# Altium schematic symbol library STM32F373BluePill.SchLib: 26 symbols (part 3 of 3)
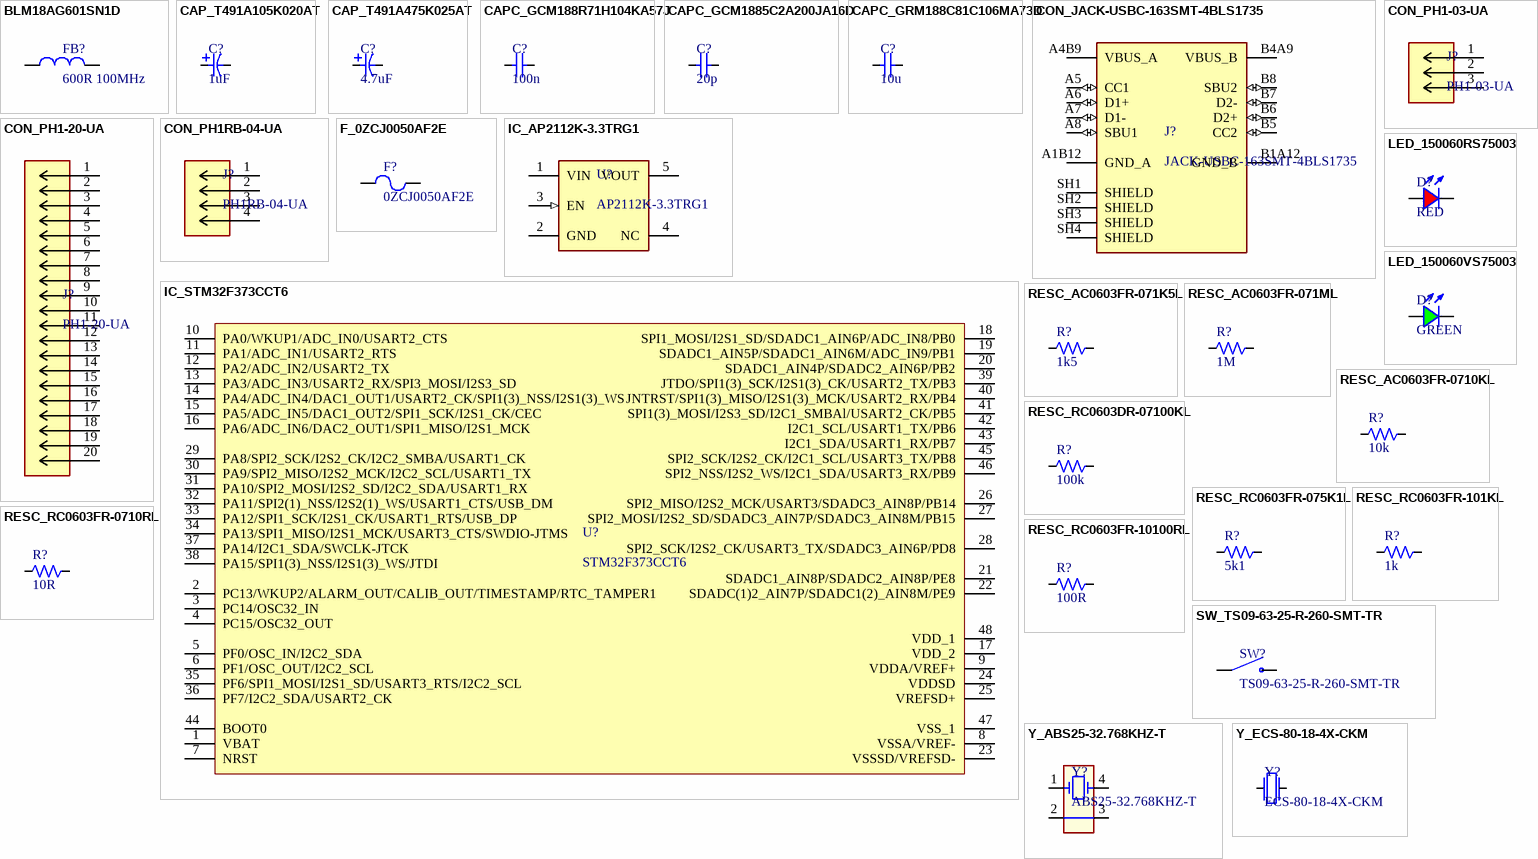
[diagram p2: symbols BLM18AG601SN1D to Y_ECS-80-18-4X-CKM]

## SW_TS09-63-25-R-260-SMT-TR
designator SW?, comment TS09-63-25-R-260-SMT-TR
Switch Tactile OFF (ON) SPST Rectangular Button Gull Wing 0.05A 12VDC 40000Cycles 2.6N SMD T/R; Manufacturer 1: Same Sky; Contact Resistance: 100mΩ; Dielectric Material: Liquid Crystal Polymer; Electrical Life: 40kcycles; Max Current Rating: 50mA; Max Voltage Rating (DC): 12V; Number of Positions: 1; Operating Force: 3.3N; Supplier 1: DigiKey; Manufacturer Part Number 1: TS09-63-25-R-260-SMT-TR; Stock 1: 2655; Pricing 1: 1=0.26, 10=0.226, 25=0.2112, 100=0.1895, 250=0.17568, 500=0.1658, 1000=0.1565 (USD); RoHS: Compliant; Color: Black, Red; Contact Material: Stainless Steel; Contact Plating: Silver; Export Control Classification Number (ECCN) Code: EAR99; Height: 1.8mm; Housing Material: Stainless Steel; Harmonized Tariff Schedule (HTS) Code: 8536.50.90.40; Insulation Resistance: 100MΩ; Introduction Date: 2024-11-07; Length: 6.1mm; Lifecycle Status: Production; Max Operating Temperature: 80°C; Min Operating Temperature: -30°C; Schedule B: 8536509065, 8536509065|8536509065|8536509065|8536509065|8536509065; Terminal Material: Brass; Throw Configuration: SPST; ComponentLink1URL: https://datasheet.octopart.com:443/TS09-63-25-R-260-SMT-TR-Same-Sky-datasheet-188843485.pdf?src-supplier=Same+Sky; ComponentLink1Description: https://datasheet.octopart.com:443/TS09-63-25-R-260-SMT-TR-Same-Sky-datasheet-188843485.pdf?src-supplier=Same+Sky; ComponentLink2URL: https://datasheet.octopart.com:443/TS09-63-25-R-260-SMT-TR-Same-Sky-datasheet-181920478.pdf?src-supplier=Same+Sky; ComponentLink2Description: https://datasheet.octopart.com:443/TS09-63-25-R-260-SMT-TR-Same-Sky-datasheet-181920478.pdf?src-supplier=Same+Sky; ComponentLink3URL: https://datasheet.octopart.com:443/TS09-63-25-R-260-SMT-TR-Same-Sky-datasheet-181920477.pdf?src-supplier=Same+Sky; ComponentLink3Description: https://datasheet.octopart.com:443/TS09-63-25-R-260-SMT-TR-Same-Sky-datasheet-181920477.pdf?src-supplier=Same+Sky; ComponentLink4URL: https://datasheet.octopart.com:443/TS09-63-25-R-260-SMT-TR-CUI-Devices-datasheet-175929131.pdf?src-supplier=Same+Sky; ComponentLink4Description: https://datasheet.octopart.com:443/TS09-63-25-R-260-SMT-TR-CUI-Devices-datasheet-175929131.pdf?src-supplier=Same+Sky; ComponentLink5URL: https://datasheet.octopart.com:443/TS09-63-25-R-260-SMT-TR-CUI-Devices-datasheet-158292269.pdf?src-supplier=Same+Sky; ComponentLink5Description: https://datasheet.octopart.com:443/TS09-63-25-R-260-SMT-TR-CUI-Devices-datasheet-158292269.pdf?src-supplier=Same+Sky; ComponentLink6URL: https://datasheet.octopart.com:443/TS09-63-25-R-260-SMT-TR-Same-Sky-datasheet-182881598.pdf?src-supplier=Electro+Sonic; ComponentLink6Description: https://datasheet.octopart.com:443/TS09-63-25-R-260-SMT-TR-Same-Sky-datasheet-182881598.pdf?src-supplier=Electro+Sonic; ComponentLink7URL: https://datasheet.octopart.com:443/TS09-63-25-R-260-SMT-TR-Same-Sky-datasheet-192884245.pdf?src-supplier=Farnell; ComponentLink7Description: https://datasheet.octopart.com:443/TS09-63-25-R-260-SMT-TR-Same-Sky-datasheet-192884245.pdf?src-supplier=Farnell; ComponentLink8URL: https://datasheet.octopart.com:443/TS09-63-25-R-260-SMT-TR-Same-Sky-datasheet-189105770.pdf?src-supplier=Master+Electronics; ComponentLink8Description: https://datasheet.octopart.com:443/TS09-63-25-R-260-SMT-TR-Same-Sky-datasheet-189105770.pdf?src-supplier=Master+Electronics; ComponentLink9URL: https://datasheet.octopart.com:443/TS09-63-25-R-260-SMT-TR-Same-Sky-datasheet-188930964.pdf?src-supplier=TME; ComponentLink9Description: https://datasheet.octopart.com:443/TS09-63-25-R-260-SMT-TR-Same-Sky-datasheet-188930964.pdf?src-supplier=TME; ComponentLink10URL: https://datasheet.octopart.com:443/TS09-63-25-R-260-SMT-TR-Same-Sky-datasheet-182050347.pdf?src-supplier=Future+Electronics; ComponentLink10Description: https://datasheet.octopart.com:443/TS09-63-25-R-260-SMT-TR-Same-Sky-datasheet-182050347.pdf?src-supplier=Future+Electronics; ComponentLink11URL: https://datasheet.octopart.com:443/TS09-63-25-R-260-SMT-TR-CUI-Devices-datasheet-179174346.pdf?src-supplier=Future+Electronics; ComponentLink11Description: https://datasheet.octopart.com:443/TS09-63-25-R-260-SMT-TR-CUI-Devices-datasheet-179174346.pdf?src-supplier=Future+Electronics; ComponentLink12URL: https://octopart.com:443/opatz8j6/c1?t=l5HlbAYCEQtF25ga8BP1gKdVmFC0QXFg10N-UqLcPEsKPWDSl4EieRPazQX1yw6b8O0XBlOCPwYRqM5QaactZwIDU8WDkrRHG3ALGquE8uURb9MJYj78InS78poluGHgaRJ6n1OuQuRgI3MH-qrDfFyez_fn7CRERxFORHNdKzTscx6YKaYx_RQSk_FV-_-LYVHzXEW8jfvtQZiY_Hf5lHgr3f3R8ssyKS9ab5UTeMAGmgVQvSGwnksim3FNXZXzl4A8l0AZEtRBwAgeRsI4I_QGMR1fI4MZmrQOhs7DigFNOXTzGq62qLa5zFbmCWSM0NT6wukQghT5URyGtJ59RmfDIq-vHVG0xFcwWCSYKzkPvFc-stx5Bfw&src-supplier=Compliance+Statements; ComponentLink12Description: https://octopart.com:443/opatz8j6/c1?t=l5HlbAYCEQtF25ga8BP1gKdVmFC0QXFg10N-UqLcPEsKPWDSl4EieRPazQX1yw6b8O0XBlOCPwYRqM5QaactZwIDU8WDkrRHG3ALGquE8uURb9MJYj78InS78poluGHgaRJ6n1OuQuRgI3MH-qrDfFyez_fn7CRERxFORHNdKzTscx6YKaYx_RQSk_FV-_-LYVHzXEW8jfvtQZiY_Hf5lHgr3f3R8ssyKS9ab5UTeMAGmgVQvSGwnksim3FNXZXzl4A8l0AZEtRBwAgeRsI4I_QGMR1fI4MZmrQOhs7DigFNOXTzGq62qLa5zFbmCWSM0NT6wukQghT5URyGtJ59RmfDIq-vHVG0xFcwWCSYKzkPvFc-stx5Bfw&src-supplier=Compliance+Statements; ComponentLink13URL: https://octopart.com:443/opatz8j6/c1?t=rnD4_cmvS0GvDkqEorAB0IvbTgunqYbFLvamlY5cC4WEmfAPsr-QNWzO_xtTcKtm-lvE8u6czRapqP8DvjaIpdzzgp7uGIJ-gJR9jPOz5U__OLSgYBAufGrJOvvjiVL20dlblNKD3BhQKY7Tacy-yaJgHXVccNkT7rOFzpIgKRqDyKEa2XXX206_6EtCsGcOW8v-ZrqSTPeLchu8Gi_oYKcbSywdws4DUthJGy8EV6pP5uGz9FA7L8jqPC6xCKMkIXlRFL4QD48j0J2jaWhrSlp5t4NIBeWh_XCtfam1rTv_vABtRQw2KWcl4GAajSUDiZMMIaW5kxzNEJAGXwejHH2rFvm5b8RK4A&src-supplier=Compliance+Statements; ComponentLink13Description: https://octopart.com:443/opatz8j6/c1?t=rnD4_cmvS0GvDkqEorAB0IvbTgunqYbFLvamlY5cC4WEmfAPsr-QNWzO_xtTcKtm-lvE8u6czRapqP8DvjaIpdzzgp7uGIJ-gJR9jPOz5U__OLSgYBAufGrJOvvjiVL20dlblNKD3BhQKY7Tacy-yaJgHXVccNkT7rOFzpIgKRqDyKEa2XXX206_6EtCsGcOW8v-ZrqSTPeLchu8Gi_oYKcbSywdws4DUthJGy8EV6pP5uGz9FA7L8jqPC6xCKMkIXlRFL4QD48j0J2jaWhrSlp5t4NIBeWh_XCtfam1rTv_vABtRQw2KWcl4GAajSUDiZMMIaW5kxzNEJAGXwejHH2rFvm5b8RK4A&src-supplier=Compliance+Statements; ComponentLink14URL: https://octopart.com:443/opatz8j6/c1?t=TI3mAHACpiCnRnVMXlWibSSZcbOEv1YzKZpOOd5d5zT4foCausP-AZNSr4D2W9wfJ_Vrh0_6kA448uPqHWYwX6LX_CWy0A0SO7Z05sF4OJA-fYsowgEvcH9E5UN-IB9qFZs3pj4UYLBCf79WijIzH1rdkw6OQv2g2oxaRK5uH7szxb3M-sSColjFJ5C6mmYlMDcqalGgkhrzFizAZvO01TtHDS8OZ9zi0WWfmjmN2-FhhCgbsMV7ZpOHWn4rafiEAygastn4JSSQw1s3wFoOKclMXLLFjCEDiSE0cOD76gKihggacBabcjWAJq9czjMLzF3U6KMdpYsn4LCFu_oQiW4rGw_o2RZjKSZrId0Nva6DVG-Bwg&src-supplier=Compliance+Statements; ComponentLink14Description: https://octopart.com:443/opatz8j6/c1?t=TI3mAHACpiCnRnVMXlWibSSZcbOEv1YzKZpOOd5d5zT4foCausP-AZNSr4D2W9wfJ_Vrh0_6kA448uPqHWYwX6LX_CWy0A0SO7Z05sF4OJA-fYsowgEvcH9E5UN-IB9qFZs3pj4UYLBCf79WijIzH1rdkw6OQv2g2oxaRK5uH7szxb3M-sSColjFJ5C6mmYlMDcqalGgkhrzFizAZvO01TtHDS8OZ9zi0WWfmjmN2-FhhCgbsMV7ZpOHWn4rafiEAygastn4JSSQw1s3wFoOKclMXLLFjCEDiSE0cOD76gKihggacBabcjWAJq9czjMLzF3U6KMdpYsn4LCFu_oQiW4rGw_o2RZjKSZrId0Nva6DVG-Bwg&src-supplier=Compliance+Statements; ComponentLink15URL: https://octopart.com:443/opatz8j6/c1?t=IBSzpZWkPKjoTxxsJHTHnLtZn-II44SZNwWU04FP6zjz3lxTCp1ixRG5BRyiD4nrT2U-U3GIHQ_eylyZWzqZQ3mC09DGK1Ff192yrmZ3BF8_k7yMxhJSezNDqSmtkR_toNPc6AiJZRvmax3emfVKYJoxO6NgxYK_ZtdrlOKX7ZdeDnPqL3eKqWG7OJdK8EtDv9_Am6WyAxiwOcci6Zp5QUxMbDC0pkHvnduhhqKdmCi4TP-MTG7eYW_MB0E4Os32YstEV2qk9BYq6dEO-MOry_RpVpNbPJcy9T7j8QSAJQD5qYRDzhJIpQG2Pk6U9hMOcU_qOBPjBkplPFEdTu8jRif0VYbMJWwWYKgVWIkXrjdK_O6E9gO8mpY&src-supplier=Compliance+Statements; ComponentLink15Description: https://octopart.com:443/opatz8j6/c1?t=IBSzpZWkPKjoTxxsJHTHnLtZn-II44SZNwWU04FP6zjz3lxTCp1ixRG5BRyiD4nrT2U-U3GIHQ_eylyZWzqZQ3mC09DGK1Ff192yrmZ3BF8_k7yMxhJSezNDqSmtkR_toNPc6AiJZRvmax3emfVKYJoxO6NgxYK_ZtdrlOKX7ZdeDnPqL3eKqWG7OJdK8EtDv9_Am6WyAxiwOcci6Zp5QUxMbDC0pkHvnduhhqKdmCi4TP-MTG7eYW_MB0E4Os32YstEV2qk9BYq6dEO-MOry_RpVpNbPJcy9T7j8QSAJQD5qYRDzhJIpQG2Pk6U9hMOcU_qOBPjBkplPFEdTu8jRif0VYbMJWwWYKgVWIkXrjdK_O6E9gO8mpY&src-supplier=Compliance+Statements; ComponentLink16URL: https://octopart.com:443/opatz8j6/c1?t=l533QolsdIF2NmxdgUpZdTG5LLY13_PFf5K5Q9rRz-bxmuWr6CaTVWFwix7oSYXEhYZ8HR0mejQkym4s3uB1uxKtOpFiPI18lsZaHyGRU6GjKl9SFsaU8BJ9V0YU2hAQaYVcmae5RRK05WYVdsDe17jV6JgcV75tYLCJqAtRxzJzNMrADyZU6Y5sC5E_PSj3oR64XZrAbn4jakqeEPyOGV1C17YvXZM4TdaFevu1BpatZJ7Rrd1fFVqoi_QDMqsmRjdUdK4Cj0-XzcDCWPHKyxXp-eKjH1HCadDpZQAg_RtB_K83KES51I0mAmAhd5fDKePdbdHCJ42cxZYZGPMPR1DELS0ZmSICUw&src-supplier=Compliance+Statements; ComponentLink16Description: https://octopart.com:443/opatz8j6/c1?t=l533QolsdIF2NmxdgUpZdTG5LLY13_PFf5K5Q9rRz-bxmuWr6CaTVWFwix7oSYXEhYZ8HR0mejQkym4s3uB1uxKtOpFiPI18lsZaHyGRU6GjKl9SFsaU8BJ9V0YU2hAQaYVcmae5RRK05WYVdsDe17jV6JgcV75tYLCJqAtRxzJzNMrADyZU6Y5sC5E_PSj3oR64XZrAbn4jakqeEPyOGV1C17YvXZM4TdaFevu1BpatZJ7Rrd1fFVqoi_QDMqsmRjdUdK4Cj0-XzcDCWPHKyxXp-eKjH1HCadDpZQAg_RtB_K83KES51I0mAmAhd5fDKePdbdHCJ42cxZYZGPMPR1DELS0ZmSICUw&src-supplier=Compliance+Statements; ComponentLink17URL: https://octopart.com:443/opatz8j6/c1?t=XS_8Dr14jAIkgmXGIz0DL9QAiXbM7D3AEBh1HjIbDuAlGp-qlN_3ZbfTR2DIGtOoGKG5QtQibMEp5_0zTpv15rq1BzK3Y184xIexRMqXUalu3pTO5IPcGoZd-s2kxnbqTz7sEnIYOJXoVv40fUph3RssNy5pgGwKs2eW3Ia8Kt5WnYIL_dqSKcOovwTbIBHNe3ztxlG08kEOD0r36ewwGRWUJvoxFk9kkvkmeONEwDYTuNacJ1GtPs9n2rPNdVMVbD_hJWJC_v5s-STKzt9lg-3zA3Zp03tom2sit_Nw6BKp4J91mM02HKe2Ot_-drUtePNF0VHYhuJ_7czTqW6UJC3YLBnzvWFLwy3_eTQs6ORaR8tihA&src-supplier=Compliance+Statements; ComponentLink17Description: https://octopart.com:443/opatz8j6/c1?t=XS_8Dr14jAIkgmXGIz0DL9QAiXbM7D3AEBh1HjIbDuAlGp-qlN_3ZbfTR2DIGtOoGKG5QtQibMEp5_0zTpv15rq1BzK3Y184xIexRMqXUalu3pTO5IPcGoZd-s2kxnbqTz7sEnIYOJXoVv40fUph3RssNy5pgGwKs2eW3Ia8Kt5WnYIL_dqSKcOovwTbIBHNe3ztxlG08kEOD0r36ewwGRWUJvoxFk9kkvkmeONEwDYTuNacJ1GtPs9n2rPNdVMVbD_hJWJC_v5s-STKzt9lg-3zA3Zp03tom2sit_Nw6BKp4J91mM02HKe2Ot_-drUtePNF0VHYhuJ_7czTqW6UJC3YLBnzvWFLwy3_eTQs6ORaR8tihA&src-supplier=Compliance+Statements; Supplier Part Number 1: 2223-TS09-63-25-R-260-SMT-TRCT-ND
footprint SW_TS09-63-25-R-260-SMT-TR
pins: 1, 2

## Y_ABS25-32.768KHZ-T
designator Y?, comment ABS25-32.768KHZ-T
Crystal, Plastic Molded 32.768Khz, 12.5F, 20Ppm-40+85C, 8 X 4 X 2.5 Rohs Compliant: Yes; Manufacturer 1: Abracon; ESR (Equivalent Series Resistance): 50kΩ; Frequency Stability: 122ppm; Frequency Tolerance: 0.002%; Load Capacitance: 12.5pF; Supplier 1: DigiKey; Manufacturer Part Number 1: ABS25-32.768KHZ-T; Stock 1: 218336; Pricing 1: 1=0.47, 10=0.411, 25=0.3892, 50=0.373, 100=0.3576, 250=0.33816, 500=0.32418, 1000=0.31077 (USD); RoHS: Compliant; Case/Package: SMD/SMT; China RoHS: Non-Compliant; Country of Origin: Japan; Depth: 3.8mm; Export Control Classification Number (ECCN) Code: EAR99; Frequency: 32.768kHz; Height: 2.4892mm; Harmonized Tariff Schedule (HTS) Code: 8541.60.00.10; Introduction Date: 2011-06-01; Lead Free: Lead Free; Length: 8mm; Lifecycle Status: Production; Max Operating Temperature: 85°C; Min Operating Temperature: -40°C; Mount: Surface Mount; Number of Pins: 4; Packaging: Cut Tape; Radiation Hardening: No; REACH SVHC: No; Schedule B: 8541600025, 8541600025|8541600025|8541600025|8541600025|8541600025|8541600025|8541600025|8541600025|8541600025, 8541600025|8541600025|8541600025|8541600025|8541600025|8541600025|8541600025|8541600025|8541600025|8541600025, 8541600025|8541600025|8541600025|8541600025|8541600025|8541600025|8541600025|8541600025|8541600025|8541600025|8541600025; Series Resistance: 50kΩ; Termination: SMD/SMT; Tolerance: 0.002%; Width: 3.81mm; ComponentLink1URL: https://datasheet.octopart.com:443/ABS25-32.768KHZ-T-Abracon-datasheet-166807298.pdf?src-supplier=JRH+Electronics; ComponentLink1Description: https://datasheet.octopart.com:443/ABS25-32.768KHZ-T-Abracon-datasheet-166807298.pdf?src-supplier=JRH+Electronics; ComponentLink2URL: https://datasheet.octopart.com:443/ABS25-32.768KHZ-T-Abracon-datasheet-103055944.pdf?src-supplier=JRH+Electronics; ComponentLink2Description: https://datasheet.octopart.com:443/ABS25-32.768KHZ-T-Abracon-datasheet-103055944.pdf?src-supplier=JRH+Electronics; ComponentLink3URL: https://datasheet.octopart.com:443/ABS25-32.768KHZ-T-Abracon-datasheet-181954792.pdf?src-supplier=IHS; ComponentLink3Description: https://datasheet.octopart.com:443/ABS25-32.768KHZ-T-Abracon-datasheet-181954792.pdf?src-supplier=IHS; ComponentLink4URL: https://datasheet.octopart.com:443/ABS25-32.768KHZ-T-Abracon-datasheet-11036012.pdf?src-supplier=Sager+Electronics; ComponentLink4Description: https://datasheet.octopart.com:443/ABS25-32.768KHZ-T-Abracon-datasheet-11036012.pdf?src-supplier=Sager+Electronics; ComponentLink5URL: https://datasheet.octopart.com:443/ABS25-32.768KHZ-T-Abracon-datasheet-8792182.pdf?src-supplier=Sager+Electronics; ComponentLink5Description: https://datasheet.octopart.com:443/ABS25-32.768KHZ-T-Abracon-datasheet-8792182.pdf?src-supplier=Sager+Electronics; ComponentLink6URL: https://datasheet.octopart.com:443/ABS25-32.768KHZ-T-Abracon-datasheet-8332207.pdf?src-supplier=Sager+Electronics; ComponentLink6Description: https://datasheet.octopart.com:443/ABS25-32.768KHZ-T-Abracon-datasheet-8332207.pdf?src-supplier=Sager+Electronics; ComponentLink7URL: https://datasheet.octopart.com:443/ABS25-32.768KHZ-T-Abracon-datasheet-32780516.pdf?src-supplier=Newark; ComponentLink7Description: https://datasheet.octopart.com:443/ABS25-32.768KHZ-T-Abracon-datasheet-32780516.pdf?src-supplier=Newark; ComponentLink8URL: https://datasheet.octopart.com:443/ABS25-32.768KHZ-T-Abracon-datasheet-15206622.pdf?src-supplier=TME; ComponentLink8Description: https://datasheet.octopart.com:443/ABS25-32.768KHZ-T-Abracon-datasheet-15206622.pdf?src-supplier=TME; ComponentLink9URL: https://datasheet.octopart.com:443/ABS25-32.768KHZ-T-Abracon-datasheet-7875.pdf?src-supplier=DigiKey; ComponentLink9Description: https://datasheet.octopart.com:443/ABS25-32.768KHZ-T-Abracon-datasheet-7875.pdf?src-supplier=DigiKey; ComponentLink10URL: https://datasheet.octopart.com:443/ABS25-32.768KHZ-T-Abracon-datasheet-164982.pdf?src-supplier=Mouser; ComponentLink10Description: https://datasheet.octopart.com:443/ABS25-32.768KHZ-T-Abracon-datasheet-164982.pdf?src-supplier=Mouser; ComponentLink11URL: https://datasheet.octopart.com:443/ABS25-32.768KHZ-T-Abracon-datasheet-72903.pdf?src-supplier=RS+(Formerly+Allied+Electronics); ComponentLink11Description: https://datasheet.octopart.com:443/ABS25-32.768KHZ-T-Abracon-datasheet-72903.pdf?src-supplier=RS+(Formerly+Allied+Electronics); ComponentLink12URL: https://datasheet.octopart.com:443/ABS25-32.768KHZ-T-Abracon-datasheet-3537.pdf?src-supplier=Farnell; ComponentLink12Description: https://datasheet.octopart.com:443/ABS25-32.768KHZ-T-Abracon-datasheet-3537.pdf?src-supplier=Farnell; ComponentLink13URL: http://sigma.octopart.com:80/conflict_mineral_statement/Abracon-company-27.pdf?src-supplier=Compliance+Statements; ComponentLink13Description: http://sigma.octopart.com:80/conflict_mineral_statement/Abracon-company-27.pdf?src-supplier=Compliance+Statements; Supplier Part Number 1: 535-9166-1-ND
footprint XTAL_ABS25-32.768KHZ-6-1-T
pins: 1, 2, 3, 4

## Y_ECS-80-18-4X-CKM
designator Y?, comment ECS-80-18-4X-CKM
8 MHz ±10ppm Crystal 18pF 80 Ohms HC-49/US; Manufacturer 1: ECS International; Supplier 1: DigiKey; Manufacturer Part Number 1: ECS-80-18-4X-CKM; Stock 1: 5547; Pricing 1: 1=0.48, 10=0.421, 25=0.398, 50=0.3814, 200=0.3505, 400=0.336, 600=0.3278, 1000=0.31775, 2600=0.29978 (USD); RoHS: Compliant; Schedule B: 8541600025, 8541600025|8541600025, 8541600025|8541600025|8541600025, 8541600025|8541600025|8541600025|8541600025; ComponentLink1URL: https://datasheet.octopart.com:443/ECS-80-18-4X-CKM-ECS-International-datasheet-145012648.pdf?src-supplier=Electro+Sonic; ComponentLink1Description: https://datasheet.octopart.com:443/ECS-80-18-4X-CKM-ECS-International-datasheet-145012648.pdf?src-supplier=Electro+Sonic; ComponentLink2URL: https://datasheet.octopart.com:443/ECS-80-18-4X-CKM-ECS-International-datasheet-17018834.pdf?src-supplier=Master+Electronics; ComponentLink2Description: https://datasheet.octopart.com:443/ECS-80-18-4X-CKM-ECS-International-datasheet-17018834.pdf?src-supplier=Master+Electronics; Supplier Part Number 1: 50-ECS-80-18-4X-CKM-ND; Case/Package: HC-49/US
footprint XTAL_ECS-80-18-4X-CKM
pins: 1, 2